# Altium footprint library CONN1X3X.2.PcbLib: 1 footprints
Each footprint in its own frame and in the unit in brackets; x right, y up, seen from the top. Pads: shape width x height; smd on the part's side, far side on the other; paste and mask are expansions set on the pad; w line width, h text height; cw(c..) or ccw(c..) is an arc to the next point about the centre after c.
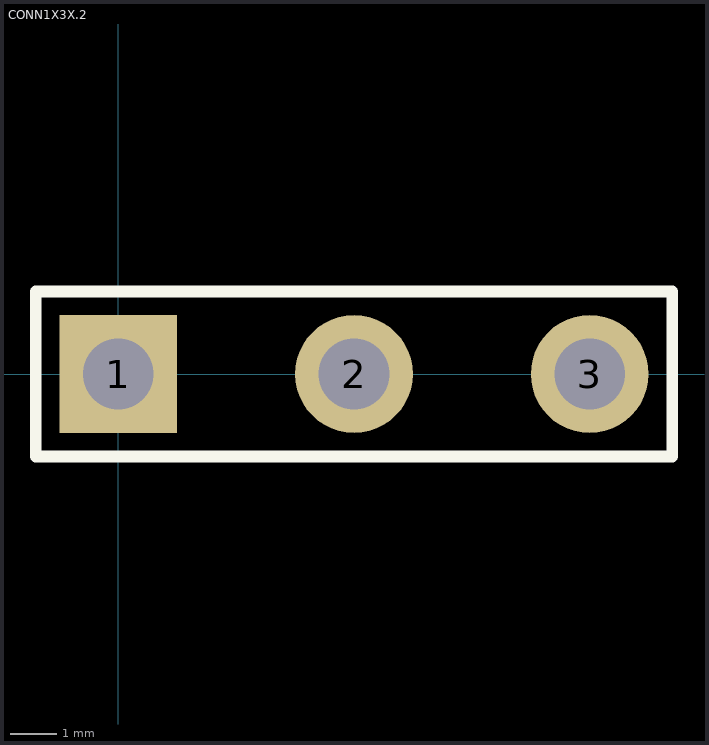
[diagram p0: the footprint, top view; thin cyan lines are the x and y axes]

## CONN1X3X.2 [mil]
height 390
pads (3):
  rect 100x100 hole 60: 1(0,0)
  round 100 hole 60: 2(200,0) 3(400,0)
TopOverlay:
  lines w10: -70,-70 470,-70 470,70 -70,70 -70,-70
Mechanical4:
  text ".340" at 0,0 h1